# Altium footprint library LED PcbLib.PcbLib: 6 footprints
Each footprint in its own frame and in the unit in brackets; x right, y up, seen from the top. Pads: shape width x height; smd on the part's side, far side on the other; paste and mask are expansions set on the pad; w line width, h text height; cw(c..) or ccw(c..) is an arc to the next point about the centre after c.
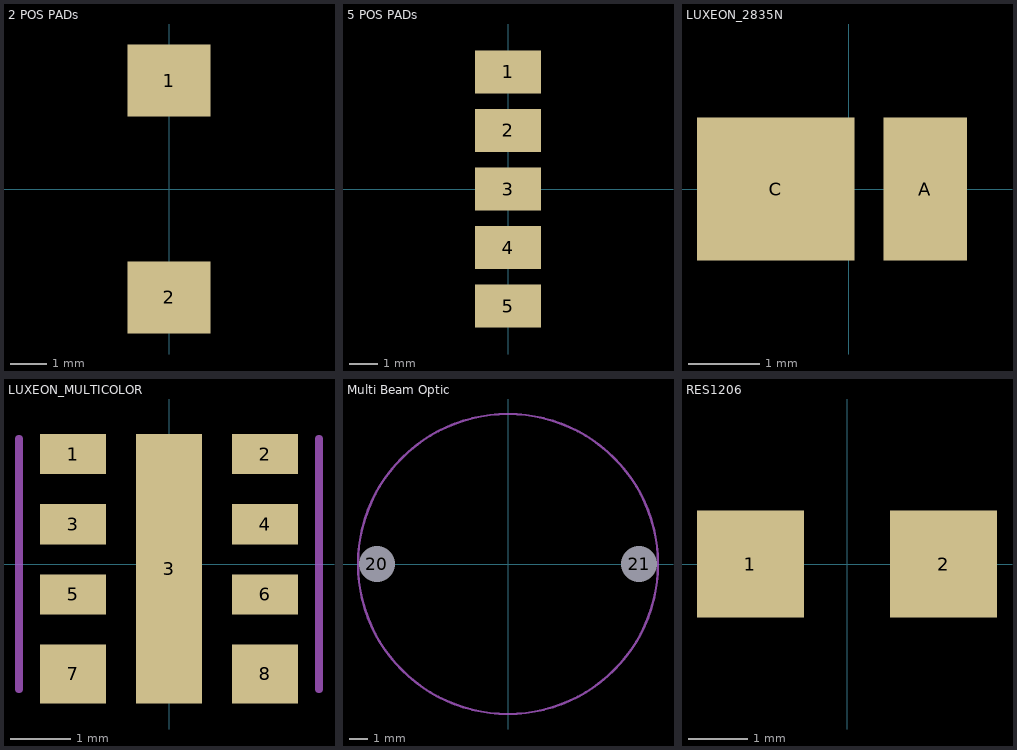
[diagram p0: the footprints below, top view; thin cyan lines are the x and y axes]

## 2 POS PADs [mm]
pads (2):
  rect 2.3x2 smd: 1(0,3) 2(0,-3)

## 5 POS PADs [mm]
pads (5):
  rect 2.3x1.5 smd: 1(0,4.089) 2(0,2.045) 3(0,0) 4(0,-2.045) 5(0,-4.089)

## LUXEON_2835N [mm]
pads (2):
  rect 1.168x2 smd: A(1.067,0)
  rect 2.2x2 smd: C(-1.017,0)

## LUXEON_MULTICOLOR [mm]
pads (9):
  rect 1.1x0.67 smd: 1(-1.6,1.833) 2(1.6,1.833) 3(-1.6,0.663) 4(1.6,0.663) 5(-1.6,-0.507) 6(1.6,-0.507)
  rect 1.1x4.49 smd: 3(0,-0.077)
  rect 1.1x0.98 smd: 7(-1.6,-1.832) 8(1.6,-1.832)
Mechanical 1:
  lines w0.125: -2.5,-2.09 -2.5,2.09 ; 2.5,-2.09 2.5,2.09

## Multi Beam Optic [mm]
pads (2):
  round 1.524 hole 2: 20(-7.25,0) 21(7.25,0)
Mechanical 1:
  circle w0.125: c0,0 r8.3

## RES1206 [mm]
pads (2):
  rect 1.8x1.8 smd: 1(-1.625,0) 2(1.625,0)